# EAGLE library part 0057_FH254-106DF08500V (library Connettori)
Female Connector strip for Arduino bases - 6x1 F V h 8,5 p2,54
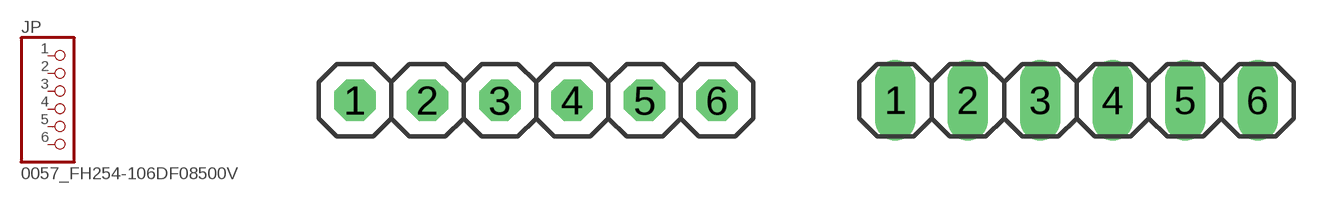
[diagram p0: symbol with the pads of 1X06_LITTLE; footprints 1X06_LITTLE, 1X06]

Designator prefix JP

## 0057_FH254-106DF08500V (MONTHLY_USAGE: _____; PART_NUMBER: FH254-106DF08500V; PRICE: _____; SUPPLIER: _____; TYPE: Connettori; VALUE: FH254-106DF08500V)  [1X06_LITTLE]
1  1  pas
2  2  pas
3  3  pas
4  4  pas
5  5  pas
6  6  pas

## 0057_FH254-106DF08500V_STD (MONTHLY_USAGE: 86722.85; PART_NUMBER: FH254-106DF08500V; PRICE: _0.03; SUPPLIER: CBC_elettronica__s.r.l.; TYPE: Connettori; VALUE: FH254-106DF08500V)  [1X06]
Pads as for 1X06_LITTLE

## Footprint 1X06_LITTLE (pad centres in mm)
drill 0.95 pad 1.422 octagon: 1 -6.35,0; 2 -3.81,0; 3 -1.27,0; 4 1.27,0; 5 3.81,0; 6 6.35,0

## Footprint 1X06 (pad centres in mm)
drill 0.85 pad 1.422 long: 1 -6.35,0; 2 -3.81,0; 3 -1.27,0; 4 1.27,0; 5 3.81,0; 6 6.35,0